# EAGLE library part IC-MCP23S17 (library ic)
Microchip 16-bit I/O Expander MCP23017 - I²C MCP23018 - I²C, open collector, 5V tolerant MCP23S17 - SPI, addressing MCP23S18 - SPI, open collector, 5V tolerant
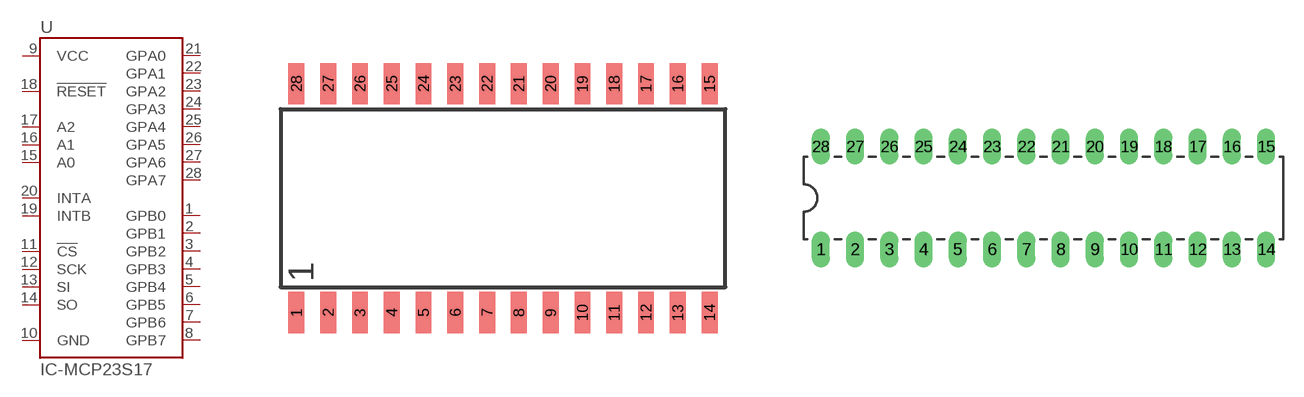
[diagram p3: symbol with the pads of IC-28-SOIC-300; footprints IC-28-SOIC-300, IC-28-DIP-300]

Designator prefix U

## IC-MCP23S17-SOIC  [IC-28-SOIC-300]
1  GPB0
2  GPB1
3  GPB2
4  GPB3
5  GPB4
6  GPB5
7  GPB6
8  GPB7
9  VCC  pwr
10  GND  pwr
11  !CS  in
12  SCK  in
13  SI  in
14  SO  out
15  A0  in
16  A1  in
17  A2  in
18  !RESET  in
19  INTB  out
20  INTA  out
21  GPA0
22  GPA1
23  GPA2
24  GPA3
25  GPA4
26  GPA5
27  GPA6
28  GPA7

## IC-MCP23S17-DIP  [IC-28-DIP-300]
Pads as for IC-28-SOIC-300

## Footprint IC-28-SOIC-300 (pad centres in mm)
smd 0.635 x 1.651: 1 -8.255,-4.572; 2 -6.985,-4.572; 3 -5.715,-4.572; 4 -4.445,-4.572; 5 -3.175,-4.572; 6 -1.905,-4.572; 7 -0.635,-4.572; 8 0.635,-4.572; 9 1.905,-4.572; 10 3.175,-4.572; 11 4.445,-4.572; 12 5.715,-4.572; 13 6.985,-4.572; 14 8.255,-4.572; 15 8.255,4.572; 16 6.985,4.572; 17 5.715,4.572; 18 4.445,4.572; 19 3.175,4.572; 20 1.905,4.572; 21 0.635,4.572; 22 -0.635,4.572; 23 -1.905,4.572; 24 -3.175,4.572; 25 -4.445,4.572; 26 -5.715,4.572; 27 -6.985,4.572; 28 -8.255,4.572

## Footprint IC-28-DIP-300 (pad centres in mm)
DIP (Dual Inline Package), 28 pin, 300 mil width
drill 0.813 long: 1 -16.51,-3.81; 2 -13.97,-3.81; 3 -11.43,-3.81; 4 -8.89,-3.81; 5 -6.35,-3.81; 6 -3.81,-3.81; 7 -1.27,-3.81; 8 1.27,-3.81; 9 3.81,-3.81; 10 6.35,-3.81; 11 8.89,-3.81; 12 11.43,-3.81; 13 13.97,-3.81; 14 16.51,-3.81; 15 16.51,3.81; 16 13.97,3.81; 17 11.43,3.81; 18 8.89,3.81; 19 6.35,3.81; 20 3.81,3.81; 21 1.27,3.81; 22 -1.27,3.81; 23 -3.81,3.81; 24 -6.35,3.81; 25 -8.89,3.81; 26 -11.43,3.81; 27 -13.97,3.81; 28 -16.51,3.81